# Altium schematic symbol library DCpower005.SchLib: 3 symbols
Pins are listed as number, name and electrical type; pins without a type are passive.

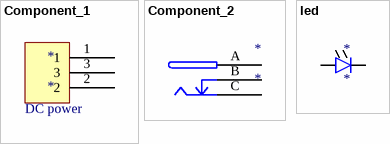
[diagram p0: symbols Component_1 to led]

## Component_1
designator *
pins: 1, 2, 3
text: DC power

## Component_2
designator *
pins: A, B, C

## led
designator *
pins: ?1, ?2